# EAGLE library part DRV8872DDAR (library DRV8872DDAR)
3.6A Brushed DC Motor Driver With Fault Reporting (PWM Ctrl) Source: Datasheet <http://www.ti.com/lit/gpn/drv8872>
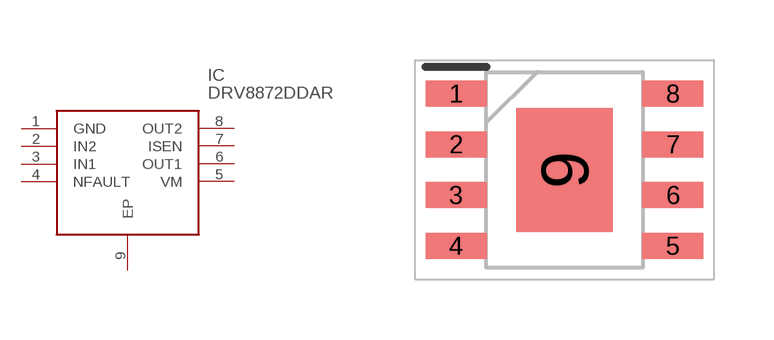
[diagram p0: symbol with the pads of SOIC127P600X170-9N; footprint SOIC127P600X170-9N]

Designator prefix IC

## DRV8872DDAR (Arrow_Part_Number: DRV8872DDAR; Arrow_Price-Stock: https://www.arrow.com/en/products/drv8872ddar/texas-instruments?region=nac; Description: 3.6A Brushed DC Motor Driver With Fault Reporting (PWM Ctrl); Height: 1.7mm; Manufacturer_Name: Texas Instruments; Manufacturer_Part_Number: DRV8872DDAR; Mouser_Part_Number: 595-DRV8872DDAR; Mouser_Price-Stock: https://www.mouser.co.uk/ProductDetail/Texas-Instruments/DRV8872DDAR?qs=Fobv33ltQGgHyGKgoxjXAw%3D%3D)  [SOIC127P600X170-9N]
1  GND  pwr
2  IN2  in
3  IN1  in
4  NFAULT  out
5  VM  pwr
6  OUT1  out
7  ISEN  pwr
8  OUT2  out
9  EP

## Footprint SOIC127P600X170-9N (pad centres in mm)
DDA (R-PDSO-G8)
smd 1.525 x 0.65: 1 -2.712,1.905; 2 -2.712,0.635; 3 -2.712,-0.635; 4 -2.712,-1.905; 5 2.712,-1.905; 6 2.712,-0.635; 7 2.712,0.635; 8 2.712,1.905
smd 2.4 x 3.1: 9 0,0